# Altium integrated library 6130XX11821_61301611821.IntLib: 1 symbol
Pins are listed as number, name and electrical type; pins without a type are passive.

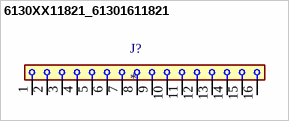
[diagram p0: symbol 6130XX11821_61301611821]

## 6130XX11821_61301611821
designator J?
MF: {'manufacturer': u'W\xfcrth Elektronik'}; MP: 61301611821; Package: None; Price: None; Value: *; Availability: Unavailable
footprint 61301611821
pins: 1, 2, 3, 4, 5, 6, 7, 8, 9, 10, 11, 12, 13, 14, 15, 16